# EAGLE library part AT42QT2120 (library Touch Controller - ATMEL AT42QT2120)
Name des Bauteiles: -->AT42QT2120 Daten:siehe Datenblatt Artikelnummer:#k0640342 Datenblatt:http://www.google.de/url?sa=t&rct=j&q=&esrc=s&source=web&cd=2&cad=rja&uact=8&ved=0CCsQFjAB&url=http%3A%2F%2Fwww.atmel.com%2Fimages%2Fdoc9634.pdf&ei=ZZX1VL_gM8LXapupgbAJ&usg=AFQjCNHqkar1-a8vf3jhbpVpWSRg7JEKKg&bvm=bv.87269000,d.d2s __________________________________________ generated by Eagle Description Tool am : 03.03.2015 12:05:20 erstellt von: Hm
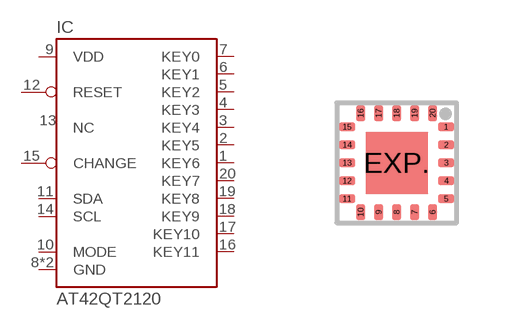
[diagram p0: symbol with the pads of VQFN-20; footprint VQFN-20]

Designator prefix IC

## AT42QT2120-MMH  [VQFN-20]
1  KEY6
2  KEY5
3  KEY4
4  KEY3
5  KEY2
6  KEY1
7  KEY0
8  GND
9  VDD
10  MODE
11  SDA
12  RESET
13  NC
14  SCL
15  CHANGE
16  KEY11
17  KEY10
18  KEY9
19  KEY8
20  KEY7
EXP.  GND

## Footprint VQFN-20 (pad centres in mm)
smd 0.4 x 0.22: 1 1.24,0.9; 2 1.24,0.45; 3 1.24,0; 4 1.24,-0.45; 5 1.24,-0.9; 11 -1.24,-0.9; 12 -1.24,-0.45; 13 -1.24,0; 14 -1.24,0.45; 15 -1.24,0.9
smd 0.22 x 0.4: 6 0.9,-1.24; 7 0.45,-1.24; 8 0,-1.24; 9 -0.45,-1.24; 10 -0.9,-1.24; 16 -0.9,1.24; 17 -0.45,1.24; 18 0,1.24; 19 0.45,1.24; 20 0.9,1.24
smd 1.55 x 1.55: EXP. 0,0